# Altium footprint library AD7606BSTZ.PcbLib: 3 footprints
Each footprint in its own frame and in the unit in brackets; x right, y up, seen from the top. Pads: shape width x height; smd on the part's side, far side on the other; paste and mask are expansions set on the pad; w line width, h text height; cw(c..) or ccw(c..) is an arc to the next point about the centre after c.
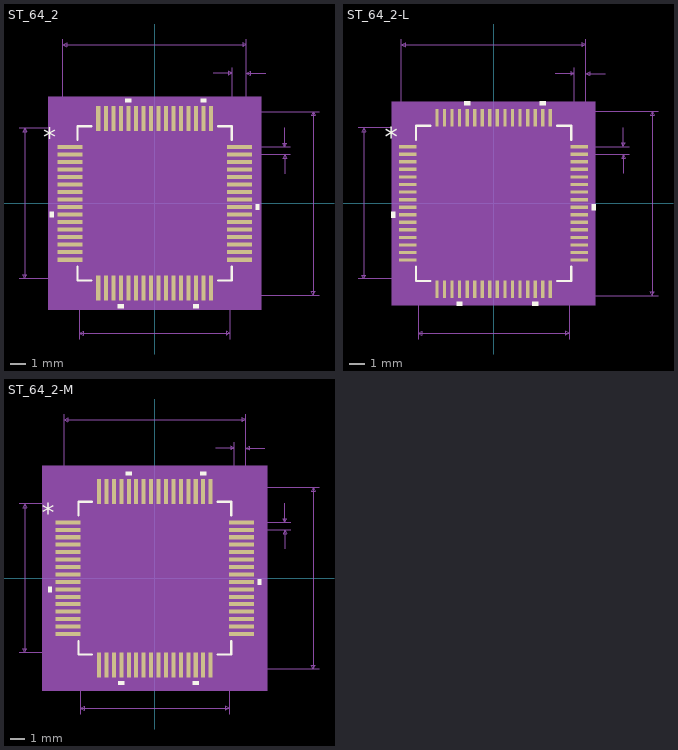
[diagram p0: the footprints below, top view; thin cyan lines are the x and y axes]

## ST_64_2 [mm]
pads (64):
  rect 1.661x0.27 smd paste+0 mask+0: 1(-5.625,3.75) 2(-5.625,3.25) 3(-5.625,2.75) 4(-5.625,2.25) 5(-5.625,1.75) 6(-5.625,1.25) 7(-5.625,0.75) 8(-5.625,0.25) 9(-5.625,-0.25) 10(-5.625,-0.75) 11(-5.625,-1.25) 12(-5.625,-1.75) 13(-5.625,-2.25) 14(-5.625,-2.75) 15(-5.625,-3.25) 16(-5.625,-3.75) 33(5.625,-3.75) 34(5.625,-3.25) 35(5.625,-2.75) 36(5.625,-2.25) 37(5.625,-1.75) 38(5.625,-1.25) 39(5.625,-0.75) 40(5.625,-0.25) 41(5.625,0.25) 42(5.625,0.75) 43(5.625,1.25) 44(5.625,1.75) 45(5.625,2.25) 46(5.625,2.75) 47(5.625,3.25) 48(5.625,3.75)
  rect 0.27x1.661 smd paste+0 mask+0: 17(-3.75,-5.625) 18(-3.25,-5.625) 19(-2.75,-5.625) 20(-2.25,-5.625) 21(-1.75,-5.625) 22(-1.25,-5.625) 23(-0.75,-5.625) 24(-0.25,-5.625) 25(0.25,-5.625) 26(0.75,-5.625) 27(1.25,-5.625) 28(1.75,-5.625) 29(2.25,-5.625) 30(2.75,-5.625) 31(3.25,-5.625) 32(3.75,-5.625) 49(3.75,5.625) 50(3.25,5.625) 51(2.75,5.625) 52(2.25,5.625) 53(1.75,5.625) 54(1.25,5.625) 55(0.75,5.625) 56(0.25,5.625) 57(-0.25,5.625) 58(-0.75,5.625) 59(-1.25,5.625) 60(-1.75,5.625) 61(-2.25,5.625) 62(-2.75,5.625) 63(-3.25,5.625) 64(-3.75,5.625)
Top Overlay:
  region: -6.71,-0.56 -6.964,-0.56 -6.964,-0.941 -6.71,-0.941
  region: -2.06,-6.71 -2.441,-6.71 -2.441,-6.964 -2.06,-6.964
  region: 2.94,-6.71 2.559,-6.71 2.559,-6.964 2.94,-6.964
  region: 6.71,-0.059 6.964,-0.059 6.964,-0.44 6.71,-0.44
  region: 3.441,6.71 3.06,6.71 3.06,6.964 3.441,6.964
  region: -1.559,6.71 -1.94,6.71 -1.94,6.964 -1.559,6.964
  lines w0.152: -5.127,-4.218 -5.127,-5.127 -4.218,-5.127 ; -5.127,4.218 -5.127,5.127 -4.218,5.127 ; 4.218,-5.127 5.127,-5.127 5.127,-4.218 ; 4.218,5.127 5.127,5.127 5.127,4.218
  text "*" at -7.408,3.746 h1.27
Mechanical 5:
  region: 7.091,-7.091 -7.091,-7.091 -7.091,7.091 7.091,7.091
Mechanical 7:
  lines w0.025: -9.021,-5 -3.75,-5 ; -9.021,5 -3.75,5 ; -6.1,3.75 -6.1,10.926 ; -5,-9.021 -5,-3.75 ; 3.75,-6.1 10.926,-6.1 ; 3.75,6.1 10.926,6.1 ; 3.88,8.64 5.15,8.64 ; 5,-9.021 5,-3.75 ; 5.15,3.75 5.15,9.021 ; 5.625,3.25 9.021,3.25 ; 5.625,3.75 9.021,3.75 ; 6.1,9.021 6.1,3.75 6.1,10.926 ; 7.37,8.64 6.1,8.64 ; 8.64,1.98 8.64,3.25 ; 8.64,5.02 8.64,3.75 ; -8.64,-5 -8.64,5 ; -8.64,-5 -8.767,-4.746 -8.513,-4.746 -8.64,-5 ; -8.64,5 -8.767,4.746 -8.513,4.746 -8.64,5 ; -6.1,10.545 6.1,10.545 ; -6.1,10.545 -5.846,10.672 -5.846,10.418 -6.1,10.545 ; -5,-8.64 5,-8.64 ; -5,-8.64 -4.746,-8.513 -4.746,-8.767 -5,-8.64 ; 5,-8.64 4.746,-8.513 4.746,-8.767 5,-8.64 ; 5.15,8.64 4.896,8.767 4.896,8.513 5.15,8.64 ; 6.1,8.64 6.354,8.767 6.354,8.513 6.1,8.64 ; 6.1,10.545 5.846,10.672 5.846,10.418 6.1,10.545 ; 8.64,3.25 8.513,2.996 8.767,2.996 8.64,3.25 ; 8.64,3.75 8.513,4.004 8.767,4.004 8.64,3.75 ; 10.545,-6.1 10.545,6.1 ; 10.545,-6.1 10.418,-5.846 10.672,-5.846 10.545,-6.1 ; 10.545,6.1 10.418,5.846 10.672,5.846 10.545,6.1
  text "Default Horiz Padstyle: r27_166" at -9.842,-12.45 h1.27
  text "Default Vert Padstyle: r27_166" at -9.525,-13.974 h1.27
  text "Alt 1 Padstyle: b152_229h76" at -8.572,-18.546 h1.27
  text "Alt 2 Padstyle: b229_152h76" at -8.572,-20.07 h1.27
  text "0.02in/0.5mm" at 9.148,3.183 h0.64
  text "0.03in/0.75mm" at 3.561,9.148 h0.64
  text "0.48in/12.2mm" at -2.064,11.053 h0.64
  text "0.394in/10mm" at -1.905,-9.783 h0.64
  text "0.394in/10mm" at -12.958,-0.318 h0.64
  text "0.48in/12.2mm" at 11.053,-0.318 h0.64
Mechanical 13:
  drawing of 265 lines, arcs and shapes, not listed
  text "*" at -4.937,3.365 h1.27
Mechanical 15:
  region: -4.139,-5.254 -5.254,-5.254 -5.254,-4.139 -6.71,-4.139 -6.71,4.139 -5.254,4.139 -5.254,5.254 -4.139,5.254 -4.139,6.71 4.139,6.71 4.139,5.254 5.254,5.254 5.254,4.139 6.71,4.139 6.71,-4.139 5.254,-4.139 5.254,-5.254 4.139,-5.254 4.139,-6.71 -4.139,-6.71
  lines w0.152: -6.71,-4.139 -5.254,-4.139 -5.254,-5.254 -4.139,-5.254 -4.139,-6.71 4.139,-6.71 4.139,-5.254 5.254,-5.254 5.254,-4.139 6.71,-4.139 6.71,4.139 5.254,4.139 5.254,5.254 4.139,5.254 4.139,6.71 -4.139,6.71 -4.139,5.254 -5.254,5.254 -5.254,4.139 -6.71,4.139 -6.71,-4.139
3D body "ST_64_2.step": height 1.6, standoff 0, extent -6.1,-6.1 6.1,6.1

## ST_64_2-L [mm]
pads (64):
  rect 1.156x0.219 smd paste+0 mask+0: 1(-5.674,3.75) 2(-5.674,3.25) 3(-5.674,2.75) 4(-5.674,2.25) 5(-5.674,1.75) 6(-5.674,1.25) 7(-5.674,0.75) 8(-5.674,0.25) 9(-5.674,-0.25) 10(-5.674,-0.75) 11(-5.674,-1.25) 12(-5.674,-1.75) 13(-5.674,-2.25) 14(-5.674,-2.75) 15(-5.674,-3.25) 16(-5.674,-3.75) 33(5.674,-3.75) 34(5.674,-3.25) 35(5.674,-2.75) 36(5.674,-2.25) 37(5.674,-1.75) 38(5.674,-1.25) 39(5.674,-0.75) 40(5.674,-0.25) 41(5.674,0.25) 42(5.674,0.75) 43(5.674,1.25) 44(5.674,1.75) 45(5.674,2.25) 46(5.674,2.75) 47(5.674,3.25) 48(5.674,3.75)
  rect 0.219x1.156 smd paste+0 mask+0: 17(-3.75,-5.674) 18(-3.25,-5.674) 19(-2.75,-5.674) 20(-2.25,-5.674) 21(-1.75,-5.674) 22(-1.25,-5.674) 23(-0.75,-5.674) 24(-0.25,-5.674) 25(0.25,-5.674) 26(0.75,-5.674) 27(1.25,-5.674) 28(1.75,-5.674) 29(2.25,-5.674) 30(2.75,-5.674) 31(3.25,-5.674) 32(3.75,-5.674) 49(3.75,5.674) 50(3.25,5.674) 51(2.75,5.674) 52(2.25,5.674) 53(1.75,5.674) 54(1.25,5.674) 55(0.75,5.674) 56(0.25,5.674) 57(-0.25,5.674) 58(-0.75,5.674) 59(-1.25,5.674) 60(-1.75,5.674) 61(-2.25,5.674) 62(-2.75,5.674) 63(-3.25,5.674) 64(-3.75,5.674)
Top Overlay:
  region: -6.506,-0.56 -6.76,-0.56 -6.76,-0.941 -6.506,-0.941
  region: -2.06,-6.506 -2.441,-6.506 -2.441,-6.76 -2.06,-6.76
  region: 2.94,-6.506 2.559,-6.506 2.559,-6.76 2.94,-6.76
  region: 6.506,-0.059 6.76,-0.059 6.76,-0.44 6.506,-0.44
  region: 3.441,6.506 3.06,6.506 3.06,6.76 3.441,6.76
  region: -1.559,6.506 -1.94,6.506 -1.94,6.76 -1.559,6.76
  lines w0.152: -5.127,-4.192 -5.127,-5.127 -4.192,-5.127 ; -5.127,4.192 -5.127,5.127 -4.192,5.127 ; 4.192,-5.127 5.127,-5.127 5.127,-4.192 ; 4.192,5.127 5.127,5.127 5.127,4.192
  text "*" at -7.205,3.746 h1.27
Mechanical 5:
  region: 6.735,-6.735 -6.735,-6.735 -6.735,6.735 6.735,6.735
Mechanical 7:
  lines w0.025: -8.97,-5 -3.75,-5 ; -8.97,5 -3.75,5 ; -6.1,3.75 -6.1,10.875 ; -5,-8.97 -5,-3.75 ; 3.75,-6.1 10.875,-6.1 ; 3.75,6.1 10.875,6.1 ; 4.08,8.589 5.35,8.589 ; 5,-8.97 5,-3.75 ; 5.35,3.75 5.35,8.97 ; 5.674,3.25 8.97,3.25 ; 5.674,3.75 8.97,3.75 ; 6.1,8.97 6.1,3.75 6.1,10.875 ; 7.37,8.589 6.1,8.589 ; 8.589,1.98 8.589,3.25 ; 8.589,5.02 8.589,3.75 ; -8.589,-5 -8.589,5 ; -8.589,-5 -8.716,-4.746 -8.462,-4.746 -8.589,-5 ; -8.589,5 -8.716,4.746 -8.462,4.746 -8.589,5 ; -6.1,10.494 6.1,10.494 ; -6.1,10.494 -5.846,10.621 -5.846,10.367 -6.1,10.494 ; -5,-8.589 5,-8.589 ; -5,-8.589 -4.746,-8.462 -4.746,-8.716 -5,-8.589 ; 5,-8.589 4.746,-8.462 4.746,-8.716 5,-8.589 ; 5.35,8.589 5.096,8.716 5.096,8.462 5.35,8.589 ; 6.1,8.589 6.354,8.716 6.354,8.462 6.1,8.589 ; 6.1,10.494 5.846,10.621 5.846,10.367 6.1,10.494 ; 8.589,3.25 8.462,2.996 8.716,2.996 8.589,3.25 ; 8.589,3.75 8.462,4.004 8.716,4.004 8.589,3.75 ; 10.494,-6.1 10.494,6.1 ; 10.494,-6.1 10.367,-5.846 10.621,-5.846 10.494,-6.1 ; 10.494,6.1 10.367,5.846 10.621,5.846 10.494,6.1
  text "Default Horiz Padstyle: RX8p63Y45p53D0T" at -12.383,-12.399 h1.27
  text "Default Vert Padstyle: RX8p63Y45p53D0T" at -12.065,-13.923 h1.27
  text "Alt 1 Padstyle: OX60Y90D30P" at -8.572,-18.495 h1.27
  text "Alt 2 Padstyle: OX90Y60D30P" at -8.572,-20.019 h1.27
  text "0.02in/0.5mm" at 9.097,3.183 h0.64
  text "0.03in/0.75mm" at 3.661,9.097 h0.64
  text "0.48in/12.2mm" at -2.064,11.002 h0.64
  text "0.394in/10mm" at -1.905,-9.732 h0.64
  text "0.394in/10mm" at -12.907,-0.318 h0.64
  text "0.48in/12.2mm" at 11.002,-0.318 h0.64
Mechanical 13:
  drawing of 265 lines, arcs and shapes, not listed
  text "*" at -4.937,3.365 h1.27
Mechanical 15:
  region: -3.961,-5.102 -5.102,-5.102 -5.102,-3.961 -6.354,-3.961 -6.354,3.961 -5.102,3.961 -5.102,5.102 -3.961,5.102 -3.961,6.354 3.961,6.354 3.961,5.102 5.102,5.102 5.102,3.961 6.354,3.961 6.354,-3.961 5.102,-3.961 5.102,-5.102 3.961,-5.102 3.961,-6.354 -3.961,-6.354
  lines w0.152: -6.354,-3.961 -5.102,-3.961 -5.102,-5.102 -3.961,-5.102 -3.961,-6.354 3.961,-6.354 3.961,-5.102 5.102,-5.102 5.102,-3.961 6.354,-3.961 6.354,3.961 5.102,3.961 5.102,5.102 3.961,5.102 3.961,6.354 -3.961,6.354 -3.961,5.102 -5.102,5.102 -5.102,3.961 -6.354,3.961 -6.354,-3.961
3D body "ST_64_2.step": height 1.6, standoff 0, extent -6.1,-6.1 6.1,6.1

## ST_64_2-M [mm]
pads (64):
  rect 1.659x0.27 smd paste+0 mask+0: 1(-5.829,3.75) 2(-5.829,3.25) 3(-5.829,2.75) 4(-5.829,2.25) 5(-5.829,1.75) 6(-5.829,1.25) 7(-5.829,0.75) 8(-5.829,0.25) 9(-5.829,-0.25) 10(-5.829,-0.75) 11(-5.829,-1.25) 12(-5.829,-1.75) 13(-5.829,-2.25) 14(-5.829,-2.75) 15(-5.829,-3.25) 16(-5.829,-3.75) 33(5.829,-3.75) 34(5.829,-3.25) 35(5.829,-2.75) 36(5.829,-2.25) 37(5.829,-1.75) 38(5.829,-1.25) 39(5.829,-0.75) 40(5.829,-0.25) 41(5.829,0.25) 42(5.829,0.75) 43(5.829,1.25) 44(5.829,1.75) 45(5.829,2.25) 46(5.829,2.75) 47(5.829,3.25) 48(5.829,3.75)
  rect 0.27x1.659 smd paste+0 mask+0: 17(-3.75,-5.829) 18(-3.25,-5.829) 19(-2.75,-5.829) 20(-2.25,-5.829) 21(-1.75,-5.829) 22(-1.25,-5.829) 23(-0.75,-5.829) 24(-0.25,-5.829) 25(0.25,-5.829) 26(0.75,-5.829) 27(1.25,-5.829) 28(1.75,-5.829) 29(2.25,-5.829) 30(2.75,-5.829) 31(3.25,-5.829) 32(3.75,-5.829) 49(3.75,5.829) 50(3.25,5.829) 51(2.75,5.829) 52(2.25,5.829) 53(1.75,5.829) 54(1.25,5.829) 55(0.75,5.829) 56(0.25,5.829) 57(-0.25,5.829) 58(-0.75,5.829) 59(-1.25,5.829) 60(-1.75,5.829) 61(-2.25,5.829) 62(-2.75,5.829) 63(-3.25,5.829) 64(-3.75,5.829)
Top Overlay:
  region: -6.913,-0.56 -7.167,-0.56 -7.167,-0.941 -6.913,-0.941
  region: -2.06,-6.913 -2.441,-6.913 -2.441,-7.167 -2.06,-7.167
  region: 2.94,-6.913 2.559,-6.913 2.559,-7.167 2.94,-7.167
  region: 6.913,-0.059 7.167,-0.059 7.167,-0.44 6.913,-0.44
  region: 3.441,6.913 3.06,6.913 3.06,7.167 3.441,7.167
  region: -1.559,6.913 -1.94,6.913 -1.94,7.167 -1.559,7.167
  lines w0.152: -5.127,-4.218 -5.127,-5.127 -4.218,-5.127 ; -5.127,4.218 -5.127,5.127 -4.218,5.127 ; 4.218,-5.127 5.127,-5.127 5.127,-4.218 ; 4.218,5.127 5.127,5.127 5.127,4.218
  text "*" at -7.611,3.746 h1.27
Mechanical 5:
  region: 7.548,-7.548 -7.548,-7.548 -7.548,7.548 7.548,7.548
Mechanical 7:
  lines w0.025: -9.125,-5 -3.75,-5 ; -9.125,5 -3.75,5 ; -6.1,3.75 -6.1,11.03 ; -5,-9.125 -5,-3.75 ; 3.75,-6.1 11.03,-6.1 ; 3.75,6.1 11.03,6.1 ; 4.08,8.744 5.35,8.744 ; 5,-9.125 5,-3.75 ; 5.35,3.75 5.35,9.125 ; 5.829,3.25 9.125,3.25 ; 5.829,3.75 9.125,3.75 ; 6.1,9.125 6.1,3.75 6.1,11.03 ; 7.37,8.744 6.1,8.744 ; 8.744,1.98 8.744,3.25 ; 8.744,5.02 8.744,3.75 ; -8.744,-5 -8.744,5 ; -8.744,-5 -8.871,-4.746 -8.617,-4.746 -8.744,-5 ; -8.744,5 -8.871,4.746 -8.617,4.746 -8.744,5 ; -6.1,10.649 6.1,10.649 ; -6.1,10.649 -5.846,10.776 -5.846,10.522 -6.1,10.649 ; -5,-8.744 5,-8.744 ; -5,-8.744 -4.746,-8.617 -4.746,-8.871 -5,-8.744 ; 5,-8.744 4.746,-8.617 4.746,-8.871 5,-8.744 ; 5.35,8.744 5.096,8.871 5.096,8.617 5.35,8.744 ; 6.1,8.744 6.354,8.871 6.354,8.617 6.1,8.744 ; 6.1,10.649 5.846,10.776 5.846,10.522 6.1,10.649 ; 8.744,3.25 8.617,2.996 8.871,2.996 8.744,3.25 ; 8.744,3.75 8.617,4.004 8.871,4.004 8.744,3.75 ; 10.649,-6.1 10.649,6.1 ; 10.649,-6.1 10.522,-5.846 10.776,-5.846 10.649,-6.1 ; 10.649,6.1 10.522,5.846 10.776,5.846 10.649,6.1
  text "Default Horiz Padstyle: RX10p63Y65p31D0T" at -12.7,-12.554 h1.27
  text "Default Vert Padstyle: RX10p63Y65p31D0T" at -12.383,-14.078 h1.27
  text "Alt 1 Padstyle: OX60Y90D30P" at -8.572,-18.65 h1.27
  text "Alt 2 Padstyle: OX90Y60D30P" at -8.572,-20.174 h1.27
  text "0.02in/0.5mm" at 9.252,3.183 h0.64
  text "0.03in/0.75mm" at 3.661,9.252 h0.64
  text "0.48in/12.2mm" at -2.064,11.157 h0.64
  text "0.394in/10mm" at -1.905,-9.887 h0.64
  text "0.394in/10mm" at -13.062,-0.318 h0.64
  text "0.48in/12.2mm" at 11.157,-0.318 h0.64
Mechanical 13:
  drawing of 265 lines, arcs and shapes, not listed
  text "*" at -4.937,3.365 h1.27
Mechanical 15:
  region: -4.393,-5.508 -5.508,-5.508 -5.508,-4.393 -7.167,-4.393 -7.167,4.393 -5.508,4.393 -5.508,5.508 -4.393,5.508 -4.393,7.167 4.393,7.167 4.393,5.508 5.508,5.508 5.508,4.393 7.167,4.393 7.167,-4.393 5.508,-4.393 5.508,-5.508 4.393,-5.508 4.393,-7.167 -4.393,-7.167
  lines w0.152: -7.167,-4.393 -5.508,-4.393 -5.508,-5.508 -4.393,-5.508 -4.393,-7.167 4.393,-7.167 4.393,-5.508 5.508,-5.508 5.508,-4.393 7.167,-4.393 7.167,4.393 5.508,4.393 5.508,5.508 4.393,5.508 4.393,7.167 -4.393,7.167 -4.393,5.508 -5.508,5.508 -5.508,4.393 -7.167,4.393 -7.167,-4.393
3D body "ST_64_2.step": height 1.6, standoff 0, extent -6.1,-6.1 6.1,6.1